# Altium schematic symbol library LED & LCD.SchLib: 11 symbols
Pins are listed as number, name and electrical type; pins without a type are passive.

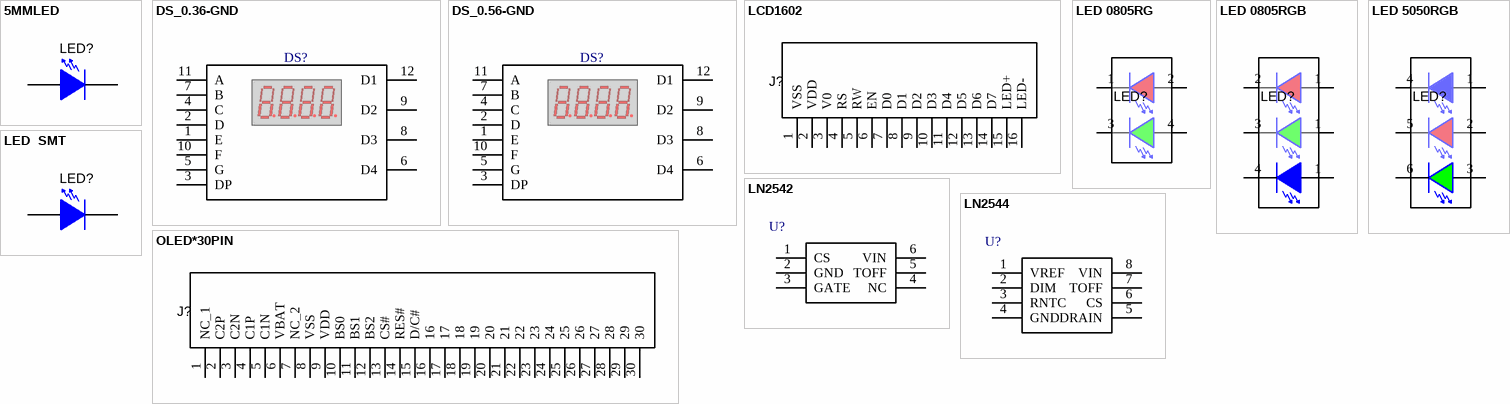
[diagram p0: symbols 5MMLED to OLED*30PIN]

## 5MMLED
designator LED?
LED; Manufacturer: ROHM; Mount type: AI
footprint LED5MMW
footprint LED5MMH
pins: 1 K, 2 A

## DS_0.36-GND
designator DS?
footprint DS_0.36
pins: 1 E "Cathode", 2 D "Cathode", 3 DP "Cathode", 4 C "Cathode", 5 G "Cathode", 6 D4 "Anode", 7 B "Cathode", 8 D3 "Anode", 9 D2 "Anode", 10 F "Cathode", 11 A "Cathode", 12 D1 "Anode"

## DS_0.56-GND
designator DS?
footprint DS_0.56 (Four Digit 0.56" GaP HER Seven Segment Display)
pins: 1 E "Cathode", 2 D "Cathode", 3 DP "Cathode", 4 C "Cathode", 5 G "Cathode", 6 D4 "Anode", 7 B "Cathode", 8 D3 "Anode", 9 D2 "Anode", 10 F "Cathode", 11 A "Cathode", 12 D1 "Anode"

## LCD1602
designator J?
LCD; Manufacturer: ROHM
footprint 2.54*16P
pins: 1 VSS, 2 VDD, 3 V0, 4 RS, 5 RW, 6 EN, 7 D0, 8 D1, 9 D2, 10 D3, 11 D4, 12 D5, 13 D6, 14 D7, 15 LED+, 16 LED-

## LED 0805RG
designator LED?
Diode, LED, RGB; Mount type: SMT; Series: 0805*2
footprint 0805LEDRG
pins: 1, 2, 3, 4

## LED 0805RGB
designator LED?
Diode, LED, RGB; Mount type: SMT; Series: 0805*2
footprint 0805LEDRGB
pins: 1 A, 1 A, 1 A, 2 K, 3 K, 4 K

## LED 5050RGB
designator LED?
Diode, LED, RGB; Mount type: SMT; Series: 0805*2
footprint 0805LEDRGB
pins: 1 A, 2 A, 3 A, 4 K, 5 K, 6 K

## LED  SMT
designator LED?
Diode, LED,; Manufacturer: ROHM; Mount type: SMT; Series: Diode
footprint 0603LEDBLUE
footprint 0603LEDGREEN
footprint 0603LEDORANGE
footprint 0603LEDRED
footprint 0603LEDYELLOW
footprint 0805LEDBLUE
footprint 0805LEDGREEN
footprint 0805LEDORANGE
footprint 0805LEDRED
footprint 0805LEDYELLOW
pins: 1 K, 2 A

## LN2542
designator U?
Global part number: LN2542; Size: SOT23-6; Mount type: SMT
footprint SOT23-6
pins: 1 CS, 2 GND, 3 GATE, 4 NC, 5 TOFF, 6 VIN

## LN2544
designator U?
Global part number: LN2544; Size: SOIC-8; Mount type: SMT
footprint SOIC-8
pins: 1 VREF, 2 DIM, 3 RNTC, 4 GND, 5 DRAIN, 6 CS, 7 TOFF, 8 VIN

## OLED*30PIN
designator J?
OLED; Manufacturer: ROHM
pins: 1 NC_1, 2 C2P, 3 C2N, 4 C1P, 5 C1N, 6 VBAT, 7 NC_2, 8 VSS, 9 VDD, 10 BS0, 11 BS1, 12 BS2, 13 CS#, 14 RES#, 15 D/C#, 16, 17, 18, 19, 20, 21, 22, 23, 24, 25, 26, 27, 28, 29, 30